# EAGLE library part PROLYNX (library FPGA_FOC_lib)
Non-isolated 9-36v, 3A, Up-Down DC-DC converter (datasheet) <http://apps.geindustrial.com/publibrary/checkout/APXW003A0X?TNR=Data%20Sheets|APXW003A0X|generic>
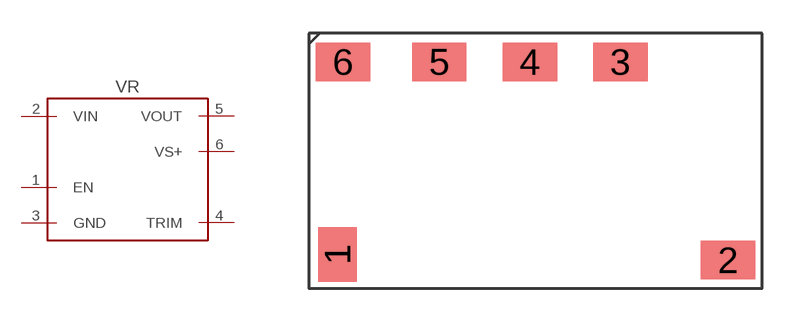
[diagram p10: symbol with the pads of PROLYNX; footprint PROLYNX]

Designator prefix VR

## PROLYNX  [PROLYNX]
1  EN
2  VIN
3  GND
4  TRIM
5  VOUT
6  VS+

## Footprint PROLYNX (pad centres in mm)
smd 1.727 x 2.438: 1 1.27,1.524
smd 2.438 x 1.727: 2 18.796,1.27; 3 13.97,10.16; 4 9.906,10.16; 5 5.842,10.16; 6 1.524,10.16